# Altium schematic symbol library User.SchLib: 1 symbol
Pins are listed as number, name and electrical type; pins without a type are passive.

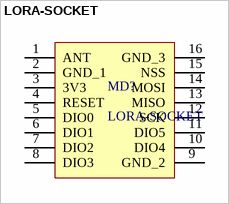
[diagram p0: symbol LORA-SOCKET]

## LORA-SOCKET
designator MD?
Socket LoRa RA01 va RA02
footprint LORA-SOCKET
pins: 1 ANT, 2 GND_1, 3 3V3, 4 RESET, 5 DIO0, 6 DIO1, 7 DIO2, 8 DIO3, 9 GND_2, 10 DIO4, 11 DIO5, 12 SCK, 13 MISO, 14 MOSI, 15 NSS, 16 GND_3